# Altium schematic symbol library SCH - LED - OSRAM GW J9LHS2.4M.SchLib: 1 symbol
Pins are listed as number, name and electrical type; pins without a type are passive.

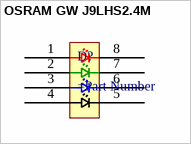
[diagram p0: symbol OSRAM GW J9LHS2.4M]

## OSRAM GW J9LHS2.4M
designator D?
pins: 1 R-A, 2 G-A, 3 B-A, 4 W-A, 5 W-C, 6 B-C, 7 G-C, 8 R-C